# EAGLE library part CH340E (library ch340)
CH340E CH340E <https://raw.githubusercontent.com/Thore-Krug/ch340/master/datasheets/ch340-datasheet-englisch-rev2.pdf> The CH340E is a MSOP10 USB to UART adapter, it supports 5V and 3V3 IO Voltage.
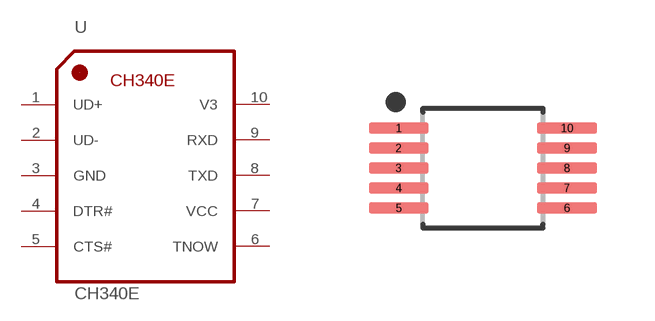
[diagram p2: symbol with the pads of SOP50P490X100-10N; footprint SOP50P490X100-10N]

Designator prefix U

## CH340E (MFG: WCH; MPN: CH340E; OC_LCSC: C99652)  [SOP50P490X100-10N]
1  UD+
2  UD-
3  GND  pas
4  DTR#  out
5  CTS#  in
6  TNOW  out
7  VCC  pwr
8  TXD  out
9  RXD  in
10  V3  pwr

## Footprint SOP50P490X100-10N (pad centres in mm)
10-SOP, 0.50 mm pitch, 4.90 mm span, 3.00 X 3.00 X 1.00 mm body 10-pin SOP package with 0.50 mm pitch, 4.90 mm span with body size 3.00 X 3.00 X 1.00 mm
smd 1.503 x 0.292: 1 -2.104,1; 2 -2.104,0.5; 3 -2.104,0; 4 -2.104,-0.5; 5 -2.104,-1; 6 2.104,-1; 7 2.104,-0.5; 8 2.104,0; 9 2.104,0.5; 10 2.104,1